# Altium footprint library VQFN10_HR.PcbLib: 1 footprints
Each footprint in its own frame and in the unit in brackets; x right, y up, seen from the top. Pads: shape width x height; smd on the part's side, far side on the other; paste and mask are expansions set on the pad; w line width, h text height; cw(c..) or ccw(c..) is an arc to the next point about the centre after c.
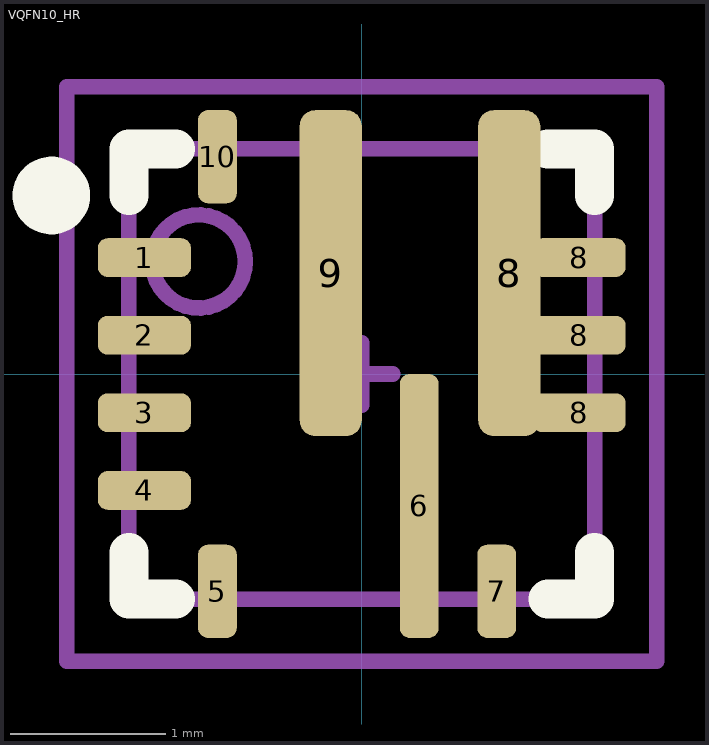
[diagram p0: the footprint, top view; thin cyan lines are the x and y axes]

## VQFN10_HR [mm]
pads (13):
  rrect50% 0.6x0.25 smd mask+0.08: 1(-1.4,0.75) 2(-1.4,0.25) 3(-1.4,-0.25) 4(-1.4,-0.75) 8(1.4,-0.25) 8(1.4,0.25) 8(1.4,0.75)
  rrect50% 0.25x0.6 smd mask+0.08: 5(-0.93,-1.4) 7(0.87,-1.4) 10(-0.93,1.4)
  rrect50% 0.25x1.7 smd paste-4 mask+0.08: 6(0.37,-0.85)
  rrect50% 0.4x2.1 smd mask+0.08: 8(0.95,0.65)
  rrect50% 0.4x2.1 smd paste-4 mask+0.08: 9(-0.2,0.65)
Top Overlay:
  circle w0.3: c-2,1.15 r0.1
  lines w0.25: -1.5,-1.15 -1.5,-1.45 -1.2,-1.45 ; -1.5,1.15 -1.5,1.45 -1.2,1.45 ; 1.2,-1.45 1.5,-1.45 1.5,-1.15 ; 1.2,1.45 1.5,1.45 1.5,1.15
Top Paste:
  rectangle: 0.245,-0.75 0.495,0
  rectangle: -0.4,0.75 0,1.7
  rectangle: -0.4,-0.4 0,0.55
  rectangle: 0.245,-1.7 0.495,-0.95
Top Courtyard:
  lines w0.1: -0.2,0 0.2,0 ; 0,-0.2 0,0.2 ; -1.9,-1.85 -1.9,-0.925 -1.9,0.925 -1.9,1.85 1.9,1.85 1.9,-1.85 -1.9,-1.85
Top Assembly:
  circle w0.1: c-1.05,0.725 r0.3
  lines w0.1: -1.5,-1.45 1.5,-1.45 1.5,1.45 -1.5,1.45 -1.5,-1.45
3D body "rpa0010a.stp": height 1, standoff 0, extent -1.5,-1.5 1.5,1.5